# Altium schematic symbol library EM.SchLib: 9 symbols
Pins are listed as number, name and electrical type; pins without a type are passive.

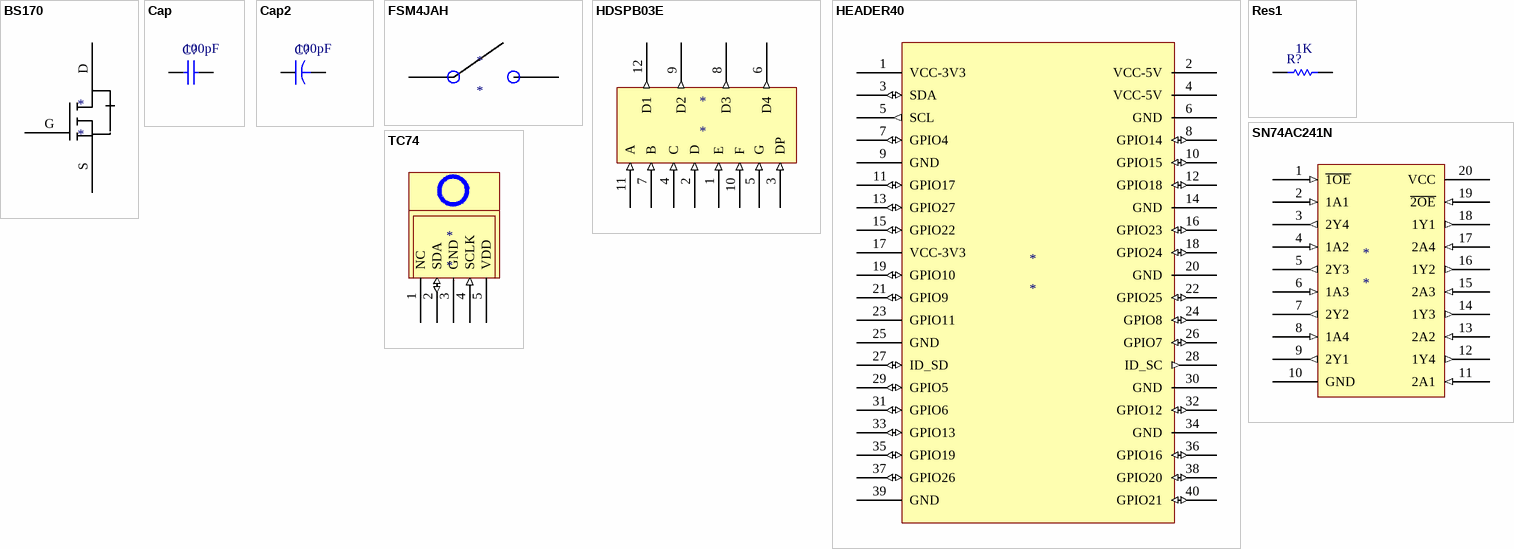
[diagram p0: symbols BS170 to TC74]

## BS170
designator *
Mosfet
footprint MOSFET (TO-92)
pins: D, G, S

## Cap
designator C?  value 100pF
Capacitor; Published: 8-Jun-2000; LatestRevisionDate: 17-Jul-2002; LatestRevisionNote: Re-released for DXP Platform.; PackageReference: RAD-0.3; Publisher: Altium Limited; PackageDescription: Radial Cap, Thru-Hole; 2 Leads; 0.3 in Pin Spacing
footprint RAD-0.3 (Radial Cap, Thru-Hole; 2 Leads; 0.3 in Pin Spacing)
simulation model CAP (Capacitor)
signal-integrity model Cap
pins: 1, 2

## Cap2
designator C?  value 100pF
Capacitor; Published: 23-Sep-2002; PackageReference: CAPR5-4X5; Publisher: Altium Limited; PackageDescription: Capacitor; 2 Leads
footprint CAPR5-4X5 (Capacitor; 2 Leads)
simulation model CAP (Capacitor)
signal-integrity model Cap
pins: 1, 2

## FSM4JAH
designator *
Switch
footprint SPST
pins: 1, 2

## HDSPB03E
designator *
Display
footprint DISPLAY
pins: 1 E (in), 2 D (in), 3 DP (in), 4 C (in), 5 G (in), 6 D4 (out), 7 B (in), 8 D3 (out), 9 D2 (out), 10 F (in), 11 A (in), 12 D1 (out)

## HEADER40
designator *
Header
footprint DIP40
pins: 1 VCC-3V3, 2 VCC-5V, 3 SDA (io), 4 VCC-5V, 5 SCL (out), 6 GND, 7 GPIO4 (io), 8 GPIO14 (io), 9 GND, 10 GPIO15 (io), 11 GPIO17 (io), 12 GPIO18 (io), 13 GPIO27 (io), 14 GND, 15 GPIO22 (io), 16 GPIO23 (io), 17 VCC-3V3, 18 GPIO24 (io), 19 GPIO10 (io), 20 GND, 21 GPIO9 (io), 22 GPIO25 (io), 23 GPIO11, 24 GPIO8 (io), 25 GND, 26 GPIO7 (io), 27 ID_SD (io), 28 ID_SC (out), 29 GPIO5 (io), 30 GND, 31 GPIO6 (io), 32 GPIO12 (io), 33 GPIO13 (io), 34 GND, 35 GPIO19 (io), 36 GPIO16 (io), 37 GPIO26 (io), 38 GPIO20 (io), 39 GND, 40 GPIO21 (io)

## Res1
designator R?  value 1K
Resistor; Published: 8-Jun-2000; LatestRevisionDate: 17-Jul-2002; LatestRevisionNote: Re-released for DXP Platform.; PackageReference: AXIAL-0.3; Publisher: Altium Limited; PackageDescription: Axial Device, Thru-Hole; 2 Leads; 0.3 in Pin Spacing
footprint AXIAL-0.3 (Axial Device, Thru-Hole; 2 Leads; 0.3 in Pin Spacing)
simulation model RESISTOR (Resistor)
signal-integrity model Res
pins: 1, 2

## SN74AC241N
designator *
Driver; Part Number: SN74AC241N
footprint SN74
pins: 1 ~{1OE} (in), 2 1A1 (in), 3 2Y4 (out), 4 1A2 (in), 5 2Y3 (out), 6 1A3 (in), 7 2Y2 (out), 8 1A4 (in), 9 2Y1 (out), 10 GND (power), 11 2A1 (in), 12 1Y4 (out), 13 2A2 (in), 14 1Y3 (out), 15 2A3 (in), 16 1Y2 (out), 17 2A4 (in), 18 1Y1 (out), 19 ~{2OE} (in), 20 VCC (power)

## TC74
designator *
Sensor
footprint T0220
pins: 1 NC, 2 SDA (io), 3 GND, 4 SCLK (in), 5 VDD